# EAGLE library part *74 (library digital)
74xx74: Dual D flip-flop With preset and clear
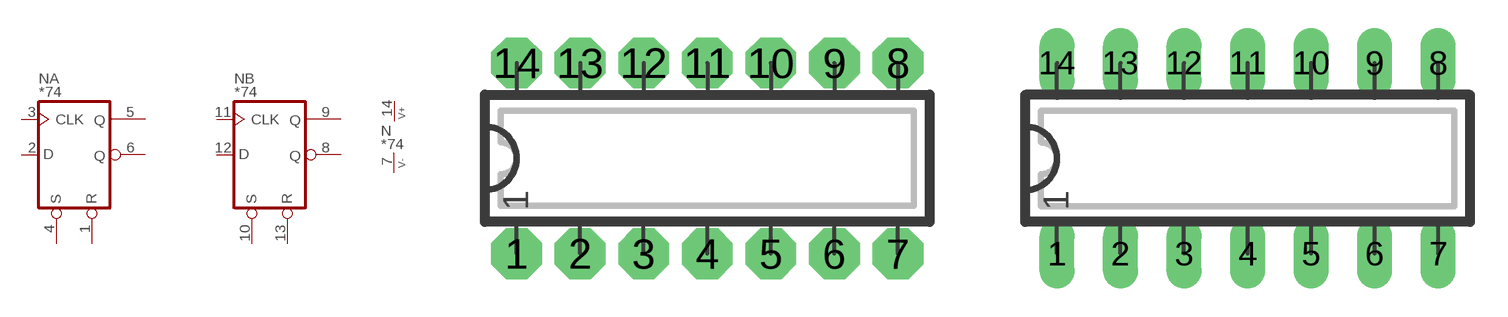
[diagram p28: symbol with the pads of DIP14N; footprints DIP14N, DIP14L]

Designator prefix N; gates A=DFF_1 B=DFF_1 P=V+-

## 7474N, 74AC74N, 74ACT74N, 74ALS74N, 74AS74N, 74C74N, 74HC74N, 74HCT74N, 74L74N, 74LS74N, 74S74N  [DIP14N]
1  A:/R  in
2  A:D  in
3  A:CLK  in
4  A:/S  in
5  A:Q  out
6  A:/Q  out
7  P:V-  pwr
8  B:/Q  out
9  B:Q  out
10  B:/S  in
11  B:CLK  in
12  B:D  in
13  B:/R  in
14  P:V+  pwr

## 7474L, 74AC74L, 74ACT74L, 74ALS74L, 74AS74L, 74C74L, 74HC74L, 74HCT74L, 74L74L, 74LS74L, 74S74L  [DIP14L]
Pads as for DIP14N

## 7474, 74AC74, 74ACT74, 74ALS74, 74AS74, 74C74, 74HC74, 74HCT74, 74L74, 74LS74, 74S74  [DIP14L]
Pads as for DIP14N

## 74AC74R, 74ACT74R, 74C74R, 74HC74R, 74HCT74R  [DIP14R]
Pads as for DIP14N

## 74HC74S, 74HCT74S  [SO14]
Pads as for DIP14N

## Footprint DIP14N (pad centres in mm)
DIP-14 Standard IC package, 14 pins
drill 0.813 pad 2.032 octagon: 1 0,0; 2 2.54,0; 3 5.08,0; 4 7.62,0; 5 10.16,0; 6 12.7,0; 7 15.24,0; 8 15.24,7.62; 9 12.7,7.62; 10 10.16,7.62; 11 7.62,7.62; 12 5.08,7.62; 13 2.54,7.62; 14 0,7.62

## Footprint DIP14L (pad centres in mm)
DIP-14, long pads Standard IC package, 14 pins
drill 0.813 pad 1.397 long: 1 0,0; 2 2.54,0; 3 5.08,0; 4 7.62,0; 5 10.16,0; 6 12.7,0; 7 15.24,0; 8 15.24,7.62; 9 12.7,7.62; 10 10.16,7.62; 11 7.62,7.62; 12 5.08,7.62; 13 2.54,7.62; 14 0,7.62

## Footprint DIP14R (pad centres in mm)
DIP-14, reduced pads Standard IC package, 14 pins
drill 0.813 pad 1.397 square: 1 0,0; 2 2.54,0; 3 5.08,0; 4 7.62,0; 5 10.16,0; 6 12.7,0; 7 15.24,0; 8 15.24,7.62; 9 12.7,7.62; 10 10.16,7.62; 11 7.62,7.62; 12 5.08,7.62; 13 2.54,7.62; 14 0,7.62

## Footprint SO14 (pad centres in mm)
SO-14, SMD SOIC IC package, 14 pins
smd 0.635 x 1.778: 1 -3.81,-2.857; 2 -2.54,-2.857; 3 -1.27,-2.857; 4 0,-2.857; 5 1.27,-2.857; 6 2.54,-2.857; 7 3.81,-2.857; 8 3.81,2.857; 9 2.54,2.857; 10 1.27,2.857; 11 0,2.857; 12 -1.27,2.857; 13 -2.54,2.857; 14 -3.81,2.857